# Altium schematic symbol library mainRCLib.SchLib: 122 symbols
Pins are listed as number, name and electrical type; pins without a type are passive.

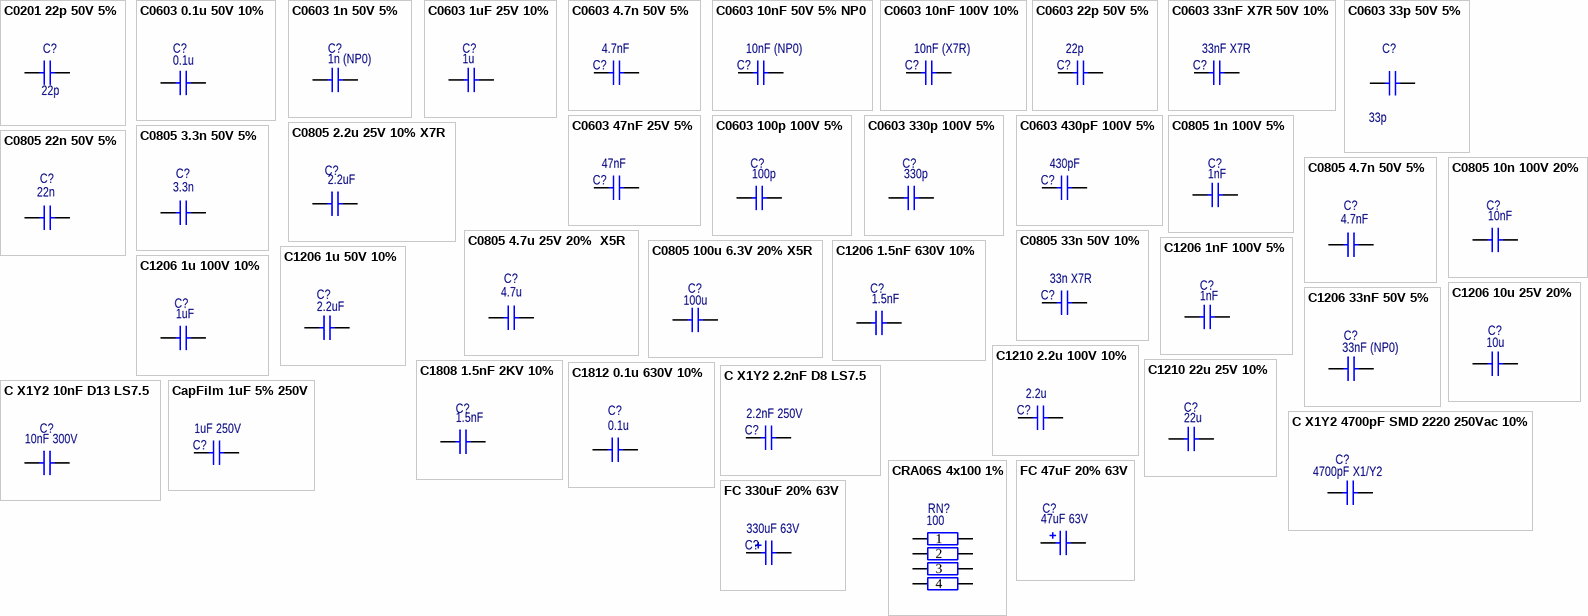
[diagram p0: symbols C0201 22p 50V 5% to FC 330uF 20% 63V]

## C0201 22p 50V 5%
designator C?, comment 22p
SMD 0201 MURATA 50V 5% NP0; PartNumber: GRM0335C1H220JA01D; Manufacturer: MURATA; Value: 22p
pins: 1, 2

## C0603 0.1u 50V 10%
designator C?, comment 0.1u
SMD C 0603 MURATA 50V 10% X7R; PartNumber: GRM188R71H104K; Manufacturer: MURATA; Value: 0.1u
footprint SMD_C_0603 (Chip Capacitor, 2-Leads, Body 1,60x0,80mm, IPC Low Density)
pins: 1, 2

## C0603 1n 50V 5%
designator C?, comment 1n (NP0)
SMD C 0603 MURATA 50V 5% NP0; PartNumber: GRM1885C1H102JA01; Manufacturer: MURATA; Value: 1n (NP0)
footprint SMD_C_0603 (Chip Capacitor, 2-Leads, Body 1,60x0,80mm, IPC Low Density)
pins: 1, 2

## C0603 1uF 25V 10%
designator C?, comment 1u
SMD C 0603 MURATA 25V 10% X7R; PartNumber: GRM188R71E105KA12; Manufacturer: MURATA; Value: 1u
footprint SMD_C_0603 (Chip Capacitor, 2-Leads, Body 1,60x0,80mm, IPC Low Density)
pins: 1, 2

## C0603 4.7n 50V 5%
designator C?, comment 4.7nF
SMD C 0603 MURATA 50V 5% NP0; PartNumber: GRM2195C1H472JA01; Manufacturer: MURATA; Value: 4.7nF
footprint SMD_C_0603 (Chip Capacitor, 2-Leads, Body 1,60x0,80mm, IPC Low Density)
pins: 1, 2

## C0603 10nF 50V 5% NP0
designator C?, comment 10nF (NP0)
SMD C 0603 MURATA 10nF 50V 5% NP0; PartNumber: GRM1885C1H103JA01#; Manufacturer: MURATA; Value: 10nF (NP0)
footprint SMD_C_0603 (Chip Capacitor, 2-Leads, Body 1,60x0,80mm, IPC Low Density)
pins: 1, 2

## C0603 10nF 100V 10%
designator C?, comment 10nF (X7R)
SMD C 0603 MURATA 100V 10% X7R; PartNumber: GRJ188R72A103KE11#; Manufacturer: MURATA; Value: 10nF (X7R)
footprint SMD_C_0603 (Chip Capacitor, 2-Leads, Body 1,60x0,80mm, IPC Low Density)
pins: 1, 2

## C0603 22p 50V 5%
designator C?, comment 22р
SMD C 0603 MURATA 50V 5% C0G; PartNumber: GRM1885C1H220JA01; Manufacturer: MURATA; Value: 22р
footprint SMD_C_0603 (Chip Capacitor, 2-Leads, Body 1,60x0,80mm, IPC Low Density)
pins: 1, 2

## C0603 33nF X7R 50V 10%
designator C?, comment 33nF X7R
SMD C 0603 MURATA 50V 10% X7R; PartNumber: GCM188R71H333KA55#; Manufacturer: MURATA; Value: 33nF X7R
footprint SMD_C_0603 (Chip Capacitor, 2-Leads, Body 1,60x0,80mm, IPC Low Density)
pins: 1, 2

## C0603 33p 50V 5%
designator C?, comment 33p
SMD C 0603 MURATA 50V 5% NP0; PartNumber: GRM1885C1H330JA01; Manufacturer: MURATA; Value: 33p
footprint SMD_C_0603 (Chip Capacitor, 2-Leads, Body 1,60x0,80mm, IPC Low Density)
pins: 1, 2

## C0603 47nF 25V 5%
designator C?, comment 47nF
SMD C 0603 MURATA 25V 5% X7R; PartNumber: GCM188R71E473JA37#; Manufacturer: MURATA; Value: 47nF
footprint SMD_C_0603 (Chip Capacitor, 2-Leads, Body 1,60x0,80mm, IPC Low Density)
pins: 1, 2

## C0603 100p 100V 5%
designator C?, comment 100p
SMD C 0603 MURATA 100V 5% NP0; PartNumber: GRM1885C2A101JA01; Manufacturer: MURATA; Value: 100p
footprint SMD_C_0603 (Chip Capacitor, 2-Leads, Body 1,60x0,80mm, IPC Low Density)
pins: 1, 2

## C0603 330p 100V 5%
designator C?, comment 330p
SMD C 0603 MURATA 100V 5% NP0; PartNumber: GRM1885C2A331JA01; Manufacturer: MURATA; Value: 330p
footprint SMD_C_0603 (Chip Capacitor, 2-Leads, Body 1,60x0,80mm, IPC Low Density)
pins: 1, 2

## C0603 430pF 100V 5%
designator C?, comment 430pF
SMD C 0603 MURATA 100V 5% C0G; PartNumber: GRM1885C2A431JA01#; Manufacturer: MURATA; Value: 430pF
footprint SMD_C_0603 (Chip Capacitor, 2-Leads, Body 1,60x0,80mm, IPC Low Density)
pins: 1, 2

## C0805 1n 100V 5%
designator C?, comment 1nF
SMD C 0805 MURATA 100V 5% NP0; PartNumber: GRM2165C2A102J; Manufacturer: MURATA; Value: 1nF
footprint SMD_C_0805 (Chip Capacitor, 2-Leads, Body 2,00x1,25mm, IPC Low Density)
pins: 1, 2

## C0805 2.2u 25V 10% X7R
designator C?, comment 2.2uF
SMD C 0805 MURATA 25V 10% X7R; PartNumber: GRM21BR61H225M; Manufacturer: MURATA; Value: 2.2uF
footprint SMD_C_0805 (Chip Capacitor, 2-Leads, Body 2,00x1,25mm, IPC Low Density)
pins: 1, 2

## C0805 3.3n 50V 5%
designator C?, comment 3.3n
SMD C 0805 MURATA 50V 5% NP0; PartNumber: GRM1885C1H332JA; Value: 3.3nF; Manufacturer: MURATA
footprint SMD_C_0805 (Chip Capacitor, 2-Leads, Body 2,00x1,25mm, IPC Low Density)
pins: 1, 2

## C0805 4.7n 50V 5%
designator C?, comment 4.7nF
SMD C 0805 MURATA 50V 5% NP0; PartNumber: GRM2195C1H472JA01; Manufacturer: MURATA; Value: 4.7nF
footprint SMD_C_0805 (Chip Capacitor, 2-Leads, Body 2,00x1,25mm, IPC Low Density)
pins: 1, 2

## C0805 4.7u 25V 20%  X5R
designator C?, comment 4.7u
SMD C 0805 MURATA 50V 5% NP0; PartNumber: GRM21BR61E475M; Manufacturer: MURATA; Value: 4.7u
footprint SMD_C_0805 (Chip Capacitor, 2-Leads, Body 2,00x1,25mm, IPC Low Density)
pins: 1, 2

## C0805 10n 100V 20%
designator C?, comment 10nF
SMD C 0805 MURATA 100V 20% X7R; PartNumber: GRM216R72A103MAC4#; Manufacturer: MURATA; Value: 10nF
footprint SMD_C_0805 (Chip Capacitor, 2-Leads, Body 2,00x1,25mm, IPC Low Density)
pins: 1, 2

## C0805 22n 50V 5%
designator C?, comment 22n
SMD C 0805 MURATA 50V 5% NP0; PartNumber: GRM21B5C1H223JA01; Value: 22nF; Manufacturer: MURATA
footprint SMD_C_0805 (Chip Capacitor, 2-Leads, Body 2,00x1,25mm, IPC Low Density)
pins: 1, 2

## C0805 33n 50V 10%
designator C?, comment 33n X7R
SMD C 0805 MURATA 50V 10% X7R; PartNumber: GRM219R71H333KA01#; Manufacturer: MURATA; Value: 33n X7R
footprint SMD_C_0805 (Chip Capacitor, 2-Leads, Body 2,00x1,25mm, IPC Low Density)
pins: 1, 2

## C0805 100u 6.3V 20% X5R
designator C?, comment 100u
SMD 0805 MURATA 6.3V 20% X5R; PartNumber: GRM21BR60J107M; Manufacturer: MURATA; Value: 100u
footprint SMD_C_0805
pins: 1, 2

## C1206 1.5nF 630V 10%
designator C?, comment 1.5nF
SMD C 1206 MURATA 630V 10% X7R; PartNumber: GRM31BR72J152KW01L; Manufacturer: MURATA; Value: 1.5nF
footprint SMD_C_1206 (Chip Capacitor, 2-Leads, Body 3,20x1,60mm, IPC Low Density)
pins: 1, 2

## C1206 1nF 100V 5%
designator C?, comment 1nF
SMD C 1206 MURATA 100V 5% NP0; PartNumber: GRM3195C2A102J; Manufacturer: MURATA; Value: 1nF
footprint SMD_C_1206 (Chip Capacitor, 2-Leads, Body 3,20x1,60mm, IPC Low Density)
pins: 1, 2

## C1206 1u 50V 10%
designator C?, comment 2.2uF
SMD C 1206 MURATA 2.2uF 50V 10%  X7R; PartNumber: GRM31CR71H225KA88L; Manufacturer: MURATA; Value: 2.2uF
footprint SMD_C_1206 (Chip Capacitor, 2-Leads, Body 3,20x1,60mm, IPC Low Density)
pins: 1, 2

## C1206 1u 100V 10%
designator C?, comment 1uF
SMD C 1206 MURATA 100V 10% X7R; PartNumber: GRM31CR72A105KA01; Manufacturer: MURATA; Value: 1uF
footprint SMD_C_1206 (Chip Capacitor, 2-Leads, Body 3,20x1,60mm, IPC Low Density)
pins: 1, 2

## C1206 10u 25V 20%
designator C?, comment 10u
SMD C 1206 MURATA 25V 20% X5R; PartNumber: GRM31MR61E106M; Manufacturer: MURATA; Value: 10u
footprint SMD_C_1206 (Chip Capacitor, 2-Leads, Body 3,20x1,60mm, IPC Low Density)
pins: 1, 2

## C1206 33nF 50V 5%
designator C?, comment 33nF (NP0)
SMD C 1206 MURATA 33nF 50V 5% NP0; PartNumber: GRM3195C1H333JA01D; Manufacturer: MURATA; Value: 33nF (NP0)
footprint SMD_C_1206 (Chip Capacitor, 2-Leads, Body 3,20x1,60mm, IPC Low Density)
pins: 1, 2

## C1210 2.2u 100V 10%
designator C?, comment 2.2u
SMD C 1210 MURATA 100V 10% X7R; PartNumber: GRM32ER72A225KA35L; Manufacturer: MURATA; Value: 2.2u
footprint SMD_C_1210 (Chip Capacitor, 2-Leads, Body 3,20x2,50mm, IPC Low Density)
pins: 1, 2

## C1210 22u 25V 10%
designator C?, comment 22u
SMD C 1210 MURATA 22uF 25V 10%  X7R; PartNumber: GRM32ER71E226K; Manufacturer: MURATA; Value: 22u
footprint SMD_C_1210 (Chip Capacitor, 2-Leads, Body 3,20x2,50mm, IPC Low Density)
pins: 1, 2

## C1808 1.5nF 2KV 10%
designator C?, comment 1.5nF
SMD C 1808 AVX 2kV 10%  X7R; PartNumber: 1808GC152KAT; Manufacturer: AVX; Value: 1.5nF
footprint SMD_C_1808 (Chip Capacitor, 2-Leads, Body 4,60x2,00mm, IPC Medium Density)
pins: 1, 2

## C1812 0.1u 630V 10%
designator C?, comment 0.1u
SMD C 1812 MURATA 630V 10% X7R; PartNumber: GRM43DR72J104K; Manufacturer: MURATA; Value: 0.1u
footprint SMD_C_1812 (Chip Capacitor, 2-Leads, Body 4,50x3,20mm, IPC Medium Density)
pins: 1, 2

## C X1Y2 2.2nF D8 LS7.5
designator C?, comment 2.2nF 250V
Ceramic D=8 LS=7.5 250VAC X1Y2; PartNumber: DE2E3KY222MN3; Manufacturer: Murata; Value: 2.2nF 250V
footprint C Y2 7.5b
pins: 1, 2

## C X1Y2 10nF D13 LS7.5
designator C?, comment 10nF 300V
Ceramic D=14 LS=7.5 300VAC X1Y2; PartNumber: DE2F3KY103MA3; Manufacturer: Murata; Value: 10nF 300V
footprint C Y2 D13 7.5b
pins: 1, 2

## C X1Y2 4700pF SMD 2220 250Vac 10%
designator C?, comment 4700pF X1/Y2
SMD C2220 MURATA 250Vac 10% X7R X1Y2; PartNumber: GA355DR7GF472kW01; Manufacturer: MURATA; Value: 4700pF X1/Y2
footprint SMD_C_2220
pins: 1, 2

## CapFilm 1uF 5% 250V
designator C?, comment 1uF 250V
Polypropelene W9.5 H17.5 L18 LS15 250V 5%; PartNumber: PHE426HB7100JR06; Manufacturer: KEMET; Value: 1uF 250V
footprint CapFilm_W9.5_H17.5_L18_LS15
pins: 1, 2

## CRA06S 4x100 1%
designator RN?, comment 100
SMD RESISTOR ARRAY VISHAY 0.063W 50V 1% 100ppm; PartNumber: CRA06S083100RF; Manufacturer: VISHAY; Value: 100
footprint CRA06S (Chip Array, ConvexS, 8-Leads, Pitch 0,80mm,  Body 3,20x1,50mm,  IPC Low Density)
pins: 1, 2, 3, 4, 5, 6, 7, 8

## FC 47uF 20% 63V
designator C?, comment 47uF 63V
Aluminum Electrolytic Radial D8 L11.5 LS3.5 63V 20%; PartNumber: EEUFC1J470(); Manufacturer: Panasonic; Value: 47uF 63V
footprint El_D8_H11.5_LS3.5
pins: 1, 2

## FC 330uF 20% 63V
designator C?, comment 330uF 63V
Aluminum Electrolytic Radial D12.5 L20 LS5 63V 20%; PartNumber: EEUFC1J331( ); Manufacturer: Panasonic; Value: 330uF 63V
footprint El_D12.5_H20_LS5.0
pins: 1, 2

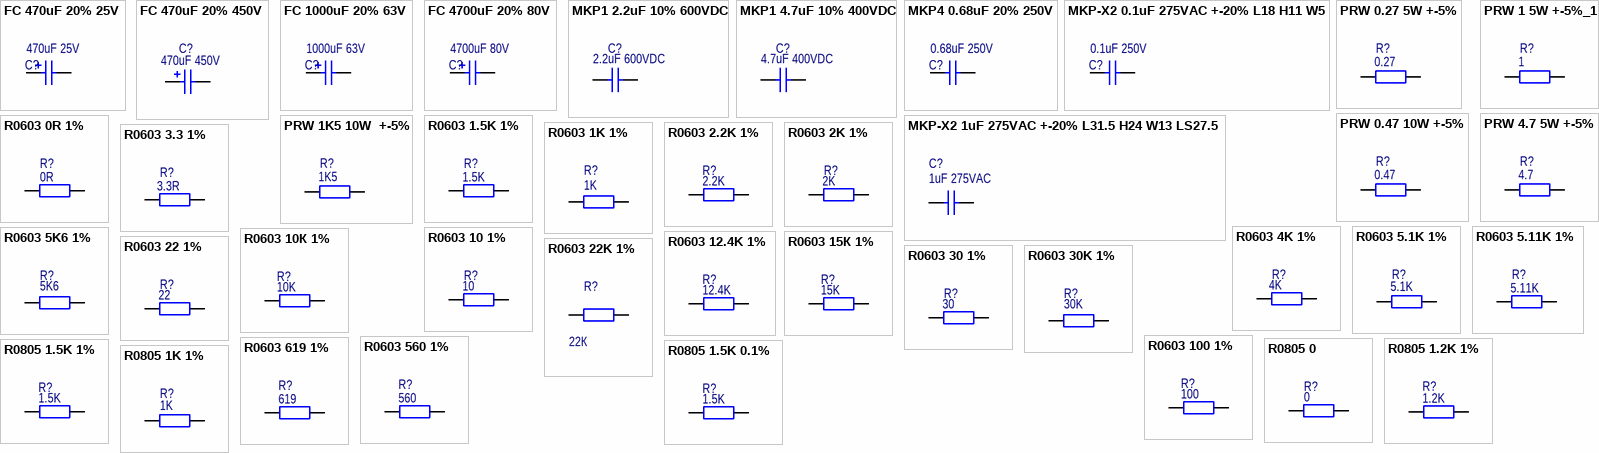
[diagram p1: symbols FC 470uF 20% 25V to R0805 1K 1%]

## FC 470uF 20% 25V
designator C?, comment 470uF 25V
Aluminum Electrolytic Radial D10 L16 LS5 25V 20%; PartNumber: EEUFC1E471( ); Manufacturer: Panasonic; Value: 470uF 25V
footprint El_D10_H16_LS5.0
pins: 1, 2

## FC 470uF 20% 450V
designator C?, comment 470uF 450V
Aluminum Electrolytic Radial D35 H45 LS10 450V 20%; PartNumber: LG450M0470BPF-3545; Manufacturer: YAGEO; Value: 470uF 450V
footprint El_D35_H45_LS10
pins: 1, 2

## FC 1000uF 20% 63V
designator C?, comment 1000uF 63V
Aluminum Electrolytic Radial D16 L35.5 LS7.5 63V 20%; PartNumber: EEUFC1J102; Manufacturer: Panasonic; Value: 1000uF 63V
footprint El_D16_H31.5_LS7.5
pins: 1, 2

## FC 4700uF 20% 80V
designator C?, comment 4700uF 80V
Aluminum Electrolytic Radial D35 L30 LS7.5 63V 20%; PartNumber: SLPX472M080H3P3; Manufacturer: Cornell Dubilier; Value: 4700uF 80V
footprint El_D35_H330_LS10
pins: 1, 2

## MKP1 2.2uF 10% 600VDC
designator C?, comment 2.2uF 600VDC
Polypropelene W20 H39.5 L41.5 LS37.5 600VDC 10%; PartNumber: MKP1J042207G00K; Manufacturer: Wima; Value: 2.2uF 600VDC
footprint MKP_W20_H39.5_L41.5_LS37.5
pins: 1, 2

## MKP1 4.7uF 10% 400VDC
designator C?, comment 4.7uF 400VDC
Polypropelene W20 H39.5 L41.5 LS37.5 400VDC 10%; PartNumber: MKP1G044707G00K; Manufacturer: Wima; Value: 4.7uF 400VDC
footprint MKP_W20_H39.5_L41.5_LS37.5
pins: 1, 2

## MKP4 0.68uF 20% 250V
designator C?, comment 0.68uF 250V
Polypropelene W8 H15 L18 LS15 250V 20%; PartNumber: MKP4F036804F00; Manufacturer: Wima; Value: 0.68uF 250V
footprint MKP_W8_H15_L18_LS15
pins: 1, 2

## MKP-X2 0.1uF 275VAC +-20% L18 H11 W5
designator C?, comment 0.1uF 250V
Polypropelene MKP-X2 L18 H11 W5; PartNumber: MKX21W31004B00M; Manufacturer: Wima; Value: 0.1uF 250V
footprint MKP_W5_H11_L18_LS15
pins: 1, 2

## MKP-X2 1uF 275VAC +-20% L31.5 H24 W13 LS27.5
designator C?, comment 1uF 275VAC
Polypropelene MKP-X2 L31.5 H24 W13 LS27.5; PartNumber: MKX21W41006D00M; Manufacturer: Wima; Value: 1uF 275VAC
footprint MKP_W13_H24_L31.5_LS27.5
pins: 1, 2

## PRW 0.27 5W +-5%
designator R?, comment 0.27
Выводной PRW 5W 0R27 +-5%; PartNumber: PRW05WJW27K; Manufacturer: RoyalOhm; Value: 0.27
footprint PRW 5W 1050
pins: 1, 2

## PRW 0.47 10W +-5%
designator R?, comment 0.47
Выводной PRW 10W 0R47 +-5%; PartNumber: PRW0AWJW47K; Manufacturer: RoyalOhm; Value: 0.47
footprint PRW 10W 2050
pins: 1, 2

## PRW 1 5W +-5%_1
designator R?, comment 1
Выводной PRW 5W 1R +-5%; PartNumber: PRW05WJW10J; Manufacturer: RoyalOhm; Value: 0.27
footprint PRW 5W 1050
footprint PRW 5W vertical
pins: 1, 2

## PRW 1K5 10W  +-5%
designator R?, comment 1K5
Выводной PRW 10W 1K5 +-5%; PartNumber: PRW0AWJP152; Manufacturer: RoyalOhm; Value: 1K5
footprint PRW 10W 2050
pins: 1, 2

## PRW 4.7 5W +-5%
designator R?, comment 4.7
Выводной PRW 5W 4R7 +-5%; PartNumber: PRW05WJW47J; Manufacturer: RoyalOhm; Value: 4.7
footprint PRW 5W 1050
pins: 1, 2

## R0603 0R 1%
designator R?, comment 0R
SMD R 0603 VISHAY 0.1W 75V 1% 100ppm; PartNumber: CRCW06030000Z0; Manufacturer: VISHAY; Value: 0R
footprint SMD_R_0603 (Chip Resistor, 2-Leads, Body 1,55x0,85mm, IPC Low Density)
pins: 1, 2

## R0603 1.5K 1%
designator R?, comment 1.5K
SMD R 0603 VISHAY 0.1W 75V 1% 100ppm; PartNumber: CRCW06031K50FK; Manufacturer: VISHAY; Value: 1.5K
footprint SMD_R_0603 (Chip Resistor, 2-Leads, Body 1,55x0,85mm, IPC Low Density)
pins: 1, 2

## R0603 1K 1%
designator R?, comment 1K
SMD R 0603 VISHAY 0.1W 75V 1% 100ppm; PartNumber: CRCW06031K00FK; Manufacturer: VISHAY; Value: 1K
footprint SMD_R_0603 (Chip Resistor, 2-Leads, Body 1,55x0,85mm, IPC Low Density)
pins: 1, 2

## R0603 2.2K 1%
designator R?, comment 2.2K
SMD R 0603 VISHAY 0.1W 75V 1% 100ppm; PartNumber: CRCW06032K20FK; Manufacturer: VISHAY; Value: 2.2K
footprint SMD_R_0603 (Chip Resistor, 2-Leads, Body 1,55x0,85mm, IPC Low Density)
pins: 1, 2

## R0603 2K 1%
designator R?, comment 2K
SMD R 0603 VISHAY 0.1W 75V 1% 100ppm; PartNumber: CRCW06032K00FK; Manufacturer: VISHAY; Value: 2K
footprint SMD_R_0603 (Chip Resistor, 2-Leads, Body 1,55x0,85mm, IPC Low Density)
pins: 1, 2

## R0603 3.3 1%
designator R?, comment 3.3R
SMD R 0603 VISHAY 0.1W 75V 1% 100ppm; PartNumber: CRCW06033R30FK; Manufacturer: VISHAY; Value: 3.3R
footprint SMD_R_0603 (Chip Resistor, 2-Leads, Body 1,55x0,85mm, IPC Low Density)
pins: 1, 2

## R0603 4K 1%
designator R?, comment 4K
SMD R 0603 VISHAY 0.1W 75V 1% 100ppm; PartNumber: CRCW06034K00FK; Manufacturer: VISHAY; Value: 4K
footprint SMD_R_0603 (Chip Resistor, 2-Leads, Body 1,55x0,85mm, IPC Low Density)
pins: 1, 2

## R0603 5.1K 1%
designator R?, comment 5.1K
SMD 0603 VISHAY 0.1W 75V 1% 100ppm; PartNumber: CRCW06035K10FK; Manufacturer: VISHAY; Value: 5.1K
footprint SMD_R_0603 (Chip Resistor, 2-Leads, Body 1,55x0,85mm, IPC Low Density)
pins: 1, 2

## R0603 5.11K 1%
designator R?, comment 5.11K
SMD R 0603 VISHAY 0.1W 75V 1% 100ppm; PartNumber: CRCW06035K11FK; Manufacturer: VISHAY; Value: 5.11K
footprint SMD_R_0603 (Chip Resistor, 2-Leads, Body 1,55x0,85mm, IPC Low Density)
pins: 1, 2

## R0603 5K6 1%
designator R?, comment 5K6
SMD R 0603 VISHAY 0.1W 75V 1% 100ppm; PartNumber: CRCW06035K60FK; Manufacturer: VISHAY; Value: 5K6
footprint SMD_R_0603 (Chip Resistor, 2-Leads, Body 1,55x0,85mm, IPC Low Density)
pins: 1, 2

## R0603 10 1%
designator R?, comment 10
SMD R 0603 VISHAY 0.1W 75V 1% 100ppm; PartNumber: CRCW060310R0FK; Manufacturer: VISHAY; Value: 10
footprint SMD_R_0603 (Chip Resistor, 2-Leads, Body 1,55x0,85mm, IPC Low Density)
pins: 1, 2

## R0603 10К 1%
designator R?, comment 10K
SMD R 0603 VISHAY 0.1W 75V 1% 100ppm; PartNumber: CRCW060310K0FK; Manufacturer: VISHAY; Value: 10K
footprint SMD_R_0603 (Chip Resistor, 2-Leads, Body 1,55x0,85mm, IPC Low Density)
pins: 1, 2

## R0603 12.4K 1%
designator R?, comment 12.4K
SMD R 0603 VISHAY 0.1W 75V 1% 100ppm; PartNumber: CRCW060312K4FK; Manufacturer: VISHAY; Value: 12.4K
footprint SMD_R_0603 (Chip Resistor, 2-Leads, Body 1,55x0,85mm, IPC Low Density)
pins: 1, 2

## R0603 15К 1%
designator R?, comment 15K
SMD R 0603 VISHAY 0.1W 75V 1% 100ppm; PartNumber: CRCW060315K0FK; Value: 10K; Manufacturer: VISHAY
footprint SMD_R_0603 (Chip Resistor, 2-Leads, Body 1,55x0,85mm, IPC Low Density)
pins: 1, 2

## R0603 22 1%
designator R?, comment 22
SMD R 0603 VISHAY 0.1W 75V 1% 100ppm; PartNumber: CRCW060322R0FK; Manufacturer: VISHAY; Value: 22
footprint SMD_R_0603 (Chip Resistor, 2-Leads, Body 1,55x0,85mm, IPC Low Density)
pins: 1, 2

## R0603 22K 1%
designator R?, comment 22К
SMD R 0603 VISHAY 0.1W 75V 1% 100ppm; PartNumber: CRCW060322K0FK; Manufacturer: VISHAY; Value: 22К
footprint SMD_R_0603 (Chip Resistor, 2-Leads, Body 1,55x0,85mm, IPC Low Density)
pins: 1, 2

## R0603 30 1%
designator R?, comment 30
SMD R 0603 VISHAY 0.1W 75V 1% 100ppm; PartNumber: CRCW060330R0FK; Manufacturer: VISHAY; Value: 30
footprint SMD_R_0603 (Chip Resistor, 2-Leads, Body 1,55x0,85mm, IPC Low Density)
pins: 1, 2

## R0603 30K 1%
designator R?, comment 30K
SMD R 0603 VISHAY 0.1W 75V 1% 100ppm; PartNumber: CRCW060330K0FK; Manufacturer: VISHAY; Value: 30K
footprint SMD_R_0603 (Chip Resistor, 2-Leads, Body 1,55x0,85mm, IPC Low Density)
pins: 1, 2

## R0603 100 1%
designator R?, comment 100
SMD R 0603 VISHAY 0.1W 75V 1% 100ppm; PartNumber: CRCW0603100RFK; Manufacturer: VISHAY; Value: 100
footprint SMD_R_0603 (Chip Resistor, 2-Leads, Body 1,55x0,85mm, IPC Low Density)
pins: 1, 2

## R0603 560 1%
designator R?, comment 560
SMD 0603 VISHAY 0.1W 75V 1% 100ppm; PartNumber: CRCW0603560RFK; Manufacturer: VISHAY; Value: 560
footprint SMD_R_0603 (Chip Resistor, 2-Leads, Body 1,55x0,85mm, IPC Low Density)
pins: 1, 2

## R0603 619 1%
designator R?, comment 619
SMD 0603 VISHAY 0.1W 75V 1% 100ppm; PartNumber: CRCW0603619RFK; Manufacturer: VISHAY; Value: 619
footprint SMD_R_0603 (Chip Resistor, 2-Leads, Body 1,55x0,85mm, IPC Low Density)
pins: 1, 2

## R0805 0
designator R?, comment 0
SMD 0805 VISHAY 0.125W 150V 1% 100ppm; PartNumber: CRCW08050000Z0; Manufacturer: VISHAY; Value: 0
footprint SMD_R_0805 (Chip Resistor, 2-Leads, Body 2,05x1,22mm, IPC Low Density)
pins: 1, 2

## R0805 1.2K 1%
designator R?, comment 1.2K
SMD R 0805 VISHAY 0.125W 150V 1% 100ppm; PartNumber: CRCW08051K2FK; Manufacturer: VISHAY; Value: 1.2K
footprint SMD_R_0805 (Chip Resistor, 2-Leads, Body 2,05x1,22mm, IPC Low Density)
pins: 1, 2

## R0805 1.5K 0.1%
designator R?, comment 1.5K
SMD R 0805 VISHAY 0.125W 150V 0.1% 25ppm; PartNumber: TNPW08051K50BE; Manufacturer: VISHAY; Value: 1.5K
footprint SMD_R_0805 (Chip Resistor, 2-Leads, Body 2,05x1,22mm, IPC Low Density)
pins: 1, 2

## R0805 1.5K 1%
designator R?, comment 1.5K
SMD R 0805 VISHAY 0.125W 150V 1% 100ppm; PartNumber: CRCW08051K50FK; Manufacturer: VISHAY; Value: 1.5K
footprint SMD_R_0805 (Chip Resistor, 2-Leads, Body 2,05x1,22mm, IPC Low Density)
pins: 1, 2

## R0805 1K 1%
designator R?, comment 1K
SMD R 0805 VISHAY 0.125W 150V 1% 100ppm; PartNumber: CRCW08051K00FK; Manufacturer: VISHAY; Value: 1K
footprint SMD_R_0805 (Chip Resistor, 2-Leads, Body 2,05x1,22mm, IPC Low Density)
pins: 1, 2

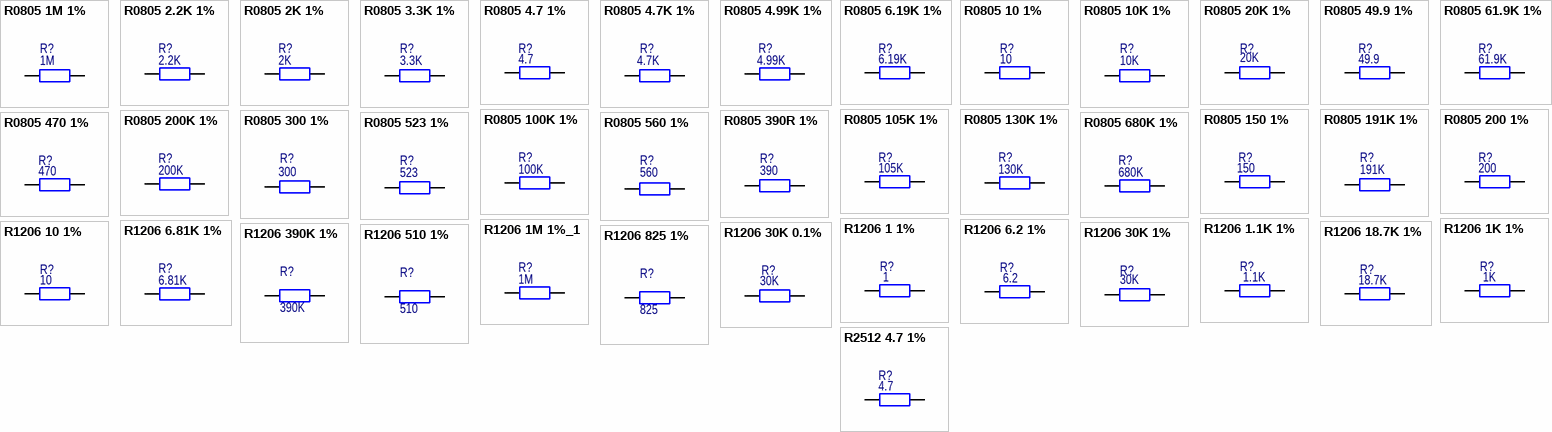
[diagram p2: symbols R0805 1M 1% to R2512 4.7 1%]

## R0805 1M 1%
designator R?, comment 1M
SMD R 0805 VISHAY 0.125W 150V 1% 100ppm; PartNumber: CRCW08051M00FK; Manufacturer: VISHAY; Value: 1M
footprint SMD_R_0805 (Chip Resistor, 2-Leads, Body 2,05x1,22mm, IPC Low Density)
pins: 1, 2

## R0805 2.2K 1%
designator R?, comment 2.2K
SMD R 0805 VISHAY 0.125W 150V 1% 100ppm; PartNumber: CRCW08052K20FK; Manufacturer: VISHAY; Value: 2.2K
footprint SMD_R_0805 (Chip Resistor, 2-Leads, Body 2,05x1,22mm, IPC Low Density)
pins: 1, 2

## R0805 2K 1%
designator R?, comment 2K
SMD R 0805 VISHAY 0.125W 150V 1% 100ppm; PartNumber: CRCW08052K00FK; Manufacturer: VISHAY; Value: 2K
footprint SMD_R_0805 (Chip Resistor, 2-Leads, Body 2,05x1,22mm, IPC Low Density)
pins: 1, 2

## R0805 3.3K 1%
designator R?, comment 3.3K
SMD R 0805 VISHAY 0.125W 150V 1% 100ppm; PartNumber: CRCW08053K30FK; Manufacturer: VISHAY; Value: 3.3K
footprint SMD_R_0805 (Chip Resistor, 2-Leads, Body 2,05x1,22mm, IPC Low Density)
pins: 1, 2

## R0805 4.7 1%
designator R?, comment 4.7
SMD R 0805 VISHAY 0.125W 150V 1% 100ppm; PartNumber: CRCW08054R70FK; Manufacturer: VISHAY; Value: 4.7
footprint SMD_R_0805
pins: 1, 2

## R0805 4.7K 1%
designator R?, comment 4.7K
SMD R 0805 VISHAY 0.125W 150V 1% 100ppm; PartNumber: CRCW08054K70FK; Manufacturer: VISHAY; Value: 4.7K
footprint SMD_R_0805 (Chip Resistor, 2-Leads, Body 2,05x1,22mm, IPC Low Density)
pins: 1, 2

## R0805 4.99K 1%
designator R?, comment 4.99K
SMD R 0805 VISHAY 0.125W 150V 1% 100ppm; PartNumber: CRCW08054K99FK; Manufacturer: VISHAY; Value: 4.99K
footprint SMD_R_0805 (Chip Resistor, 2-Leads, Body 2,05x1,22mm, IPC Low Density)
pins: 1, 2

## R0805 6.19K 1%
designator R?, comment 6.19K
SMD 0805 VISHAY 0.125W 150V 1% 100ppm; PartNumber: CRCW08056K19FK; Manufacturer: VISHAY; Value: 6.19K
footprint SMD_R_0805
pins: 1, 2

## R0805 10 1%
designator R?, comment 10
SMD R 0805 VISHAY 0.125W 150V 1% 100ppm; PartNumber: CRCW080510R0FK; Manufacturer: VISHAY; Value: 10
footprint SMD_R_0805 (Chip Resistor, 2-Leads, Body 2,05x1,22mm, IPC Low Density)
pins: 1, 2

## R0805 10K 1%
designator R?, comment 10K
SMD R 0805 VISHAY 0.125W 150V 1% 100ppm; PartNumber: CRCW080510K0FK; Manufacturer: VISHAY; Value: 10K
footprint SMD_R_0805 (Chip Resistor, 2-Leads, Body 2,05x1,22mm, IPC Low Density)
pins: 1, 2

## R0805 20K 1%
designator R?, comment 20K
SMD R 0805 VISHAY 0.125W 150V 1% 100ppm; PartNumber: CRCW080520K0FK; Manufacturer: VISHAY; Value: 20K
footprint SMD_R_0805 (Chip Resistor, 2-Leads, Body 2,05x1,22mm, IPC Low Density)
pins: 1, 2

## R0805 49.9 1%
designator R?, comment 49.9
SMD R 0805 VISHAY 0.125W 150V 1% 100ppm; PartNumber: CRCW080549R9FK; Manufacturer: VISHAY; Value: 49.9
footprint SMD_R_0805
pins: 1, 2

## R0805 61.9K 1%
designator R?, comment 61.9K
SMD R 0805 VISHAY 0.125W 150V 1% 100ppm; PartNumber: CRCW080561K9FK; Manufacturer: VISHAY; Value: 61.9K
footprint SMD_R_0805 (Chip Resistor, 2-Leads, Body 2,05x1,22mm, IPC Low Density)
pins: 1, 2

## R0805 100K 1%
designator R?, comment 100K
SMD R 0805 VISHAY 0.125W 150V 1% 100ppm; PartNumber: CRCW0805100KFK; Manufacturer: VISHAY; Value: 100K
footprint SMD_R_0805 (Chip Resistor, 2-Leads, Body 2,05x1,22mm, IPC Low Density)
pins: 1, 2

## R0805 105K 1%
designator R?, comment 105K
SMD R 0805 VISHAY 0.125W 150V 1% 100ppm; PartNumber: CRCW0805105KFK; Manufacturer: VISHAY; Value: 105K
footprint SMD_R_0805 (Chip Resistor, 2-Leads, Body 2,05x1,22mm, IPC Low Density)
pins: 1, 2

## R0805 130K 1%
designator R?, comment 130K
SMD R 0805 VISHAY 0.125W 150V 1% 100ppm; PartNumber: CRCW0805130KFK; Manufacturer: VISHAY; Value: 130K
footprint SMD_R_0805 (Chip Resistor, 2-Leads, Body 2,05x1,22mm, IPC Low Density)
pins: 1, 2

## R0805 150 1%
designator R?, comment 150
SMD 0805 VISHAY 0.125W 150V 1% 100ppm; PartNumber: CRCW0805150RFK; Manufacturer: VISHAY; Value: 150
footprint SMD_R_0805
pins: 1, 2

## R0805 191K 1%
designator R?, comment 191K
SMD R 0805 VISHAY 0.125W 150V 1% 100ppm; PartNumber: CRCW0805191KFK; Manufacturer: VISHAY; Value: 191K
footprint SMD_R_0805 (Chip Resistor, 2-Leads, Body 2,05x1,22mm, IPC Low Density)
pins: 1, 2

## R0805 200 1%
designator R?, comment 200
SMD R 0805 VISHAY 0.125W 150V 1% 100ppm; PartNumber: CRCW0805200RFK; Manufacturer: VISHAY; Value: 200
footprint SMD_R_0805 (Chip Resistor, 2-Leads, Body 2,05x1,22mm, IPC Low Density)
pins: 1, 2

## R0805 200K 1%
designator R?, comment 200K
SMD R 0805 VISHAY 0.125W 150V 1% 100ppm; PartNumber: CRCW0805200KFK; Manufacturer: VISHAY; Value: 200K
footprint SMD_R_0805 (Chip Resistor, 2-Leads, Body 2,05x1,22mm, IPC Low Density)
pins: 1, 2

## R0805 300 1%
designator R?, comment 300
SMD R 0805 VISHAY 0.125W 150V 1% 100ppm; PartNumber: CRCW0805300RFK; Manufacturer: VISHAY; Value: 300
footprint SMD_R_0805 (Chip Resistor, 2-Leads, Body 2,05x1,22mm, IPC Low Density)
pins: 1, 2

## R0805 390R 1%
designator R?, comment 390
SMD R 0805 VISHAY 0.125W 150V 1% 100ppm; PartNumber: CRCW0805390RFK; Manufacturer: VISHAY; Value: 390
footprint SMD_R_0805 (Chip Resistor, 2-Leads, Body 2,05x1,22mm, IPC Low Density)
pins: 1, 2

## R0805 470 1%
designator R?, comment 470
SMD R 0805 VISHAY 0.125W 150V 1% 100ppm; PartNumber: CRCW0805470RFK; Manufacturer: VISHAY; Value: 470
footprint SMD_R_0805
pins: 1, 2

## R0805 523 1%
designator R?, comment 523
SMD R 0805 VISHAY 0.125W 150V 1% 100ppm; PartNumber: CRCW0805523RFK; Manufacturer: VISHAY; Value: 523
footprint SMD_R_0805 (Chip Resistor, 2-Leads, Body 2,05x1,22mm, IPC Low Density)
pins: 1, 2

## R0805 560 1%
designator R?, comment 560
SMD R 0805 VISHAY 0.125W 150V 1% 100ppm; PartNumber: CRCW0805560RFK; Manufacturer: VISHAY; Value: 560
footprint SMD_R_0805 (Chip Resistor, 2-Leads, Body 2,05x1,22mm, IPC Low Density)
pins: 1, 2

## R0805 680K 1%
designator R?, comment 680K
SMD R 0805 VISHAY 0.125W 150V 1% 100ppm; PartNumber: CRCW0805680KFK; Manufacturer: VISHAY; Value: 680K
footprint SMD_R_0805 (Chip Resistor, 2-Leads, Body 2,05x1,22mm, IPC Low Density)
pins: 1, 2

## R1206 1 1%
designator R?, comment 1
SMD R 1206 VISHAY 0.25W 200V 1% 100ppm; PartNumber: CRCW12061R00FK; Manufacturer: VISHAY; Value: 1
footprint SMD_R_1206
pins: 1, 2

## R1206 1.1K 1%
designator R?, comment 1.1K
SMD R 1206 VISHAY 0.25W 200V 1% 100ppm; PartNumber: CRCW12061K100FK; Manufacturer: VISHAY; Value: 1.1K
footprint SMD_R_1206
pins: 1, 2

## R1206 1K 1%
designator R?, comment 1K
SMD R 1206 VISHAY 0.25W 200V 1% 100ppm; PartNumber: CRCW12061K00FK; Manufacturer: VISHAY; Value: 1K
footprint SMD_R_1206
pins: 1, 2

## R1206 1M 1%_1
designator R?, comment 1M
SMD R 1206 VISHAY 0.25W 150V 1% 100ppm; PartNumber: CRCW12061M00FK; Manufacturer: VISHAY; Value: 1M
footprint SMD_R_1206
pins: 1, 2

## R1206 6.2 1%
designator R?, comment 6.2
SMD R 1206 VISHAY 0.25W 200V 1% 100ppm; PartNumber: CRCW12066R20FK; Manufacturer: VISHAY; Value: 6.2
footprint SMD_R_1206
pins: 1, 2

## R1206 6.81K 1%
designator R?, comment 6.81K
SMD R 1206 VISHAY 0.25W 150V 1% 100ppm; PartNumber: CRCW12066K81FK; Manufacturer: VISHAY; Value: 6.81K
footprint SMD_R_1206
pins: 1, 2

## R1206 10 1%
designator R?, comment 10
SMD R 1206 VISHAY 0.25W 200V 1% 100ppm; PartNumber: CRCW120610R0FK; Manufacturer: VISHAY; Value: 10
footprint SMD_R_1206 (Chip Resistor, 2-Leads, Body 3,15x1,60mm, IPC Low Density)
pins: 1, 2

## R1206 18.7K 1%
designator R?, comment 18.7K
SMD R 1206 VISHAY 0.25W 200V 1% 100ppm; PartNumber: CRCW120618K7FK; Manufacturer: VISHAY; Value: 18.7K
footprint SMD_R_1206 (Chip Resistor, 2-Leads, Body 3,15x1,60mm, IPC Low Density)
pins: 1, 2

## R1206 30K 0.1%
designator R?, comment 30K
SMD R 1206 VISHAY 0.25W 2000V 0.1% 25ppm; PartNumber: TNPW120630K0BE; Manufacturer: VISHAY; Value: 30K
footprint SMD_R_1206
pins: 1, 2

## R1206 30K 1%
designator R?, comment 30K
SMD R 1206 VISHAY 0.25W 2000V 1% 100ppm; PartNumber: CRCW120630K0FK; Manufacturer: VISHAY; Value: 30K
footprint SMD_R_1206
pins: 1, 2

## R1206 390K 1%
designator R?, comment 390K
SMD R 1206 VISHAY 0.25W 200V 1% 100ppm; PartNumber: CRCW1206390KFK; Manufacturer: VISHAY; Value: 390K
footprint SMD_R_1206 (Chip Resistor, 2-Leads, Body 3,15x1,60mm, IPC Low Density)
pins: 1, 2

## R1206 510 1%
designator R?, comment 510
SMD R 1206 VISHAY 0.25W 200V 1% 100ppm; PartNumber: CRCW1206510RFK; Manufacturer: VISHAY; Value: 510
footprint SMD_R_1206 (Chip Resistor, 2-Leads, Body 3,15x1,60mm, IPC Low Density)
pins: 1, 2

## R1206 825 1%
designator R?, comment 825
SMD R 1206 VISHAY 0.25W 200V 1% 100ppm; PartNumber: CRCW1206825RFK; Manufacturer: VISHAY; Value: 825
footprint SMD_R_1206 (Chip Resistor, 2-Leads, Body 3,15x1,60mm, IPC Low Density)
pins: 1, 2

## R2512 4.7 1%
designator R?, comment 4.7
SMD R 2512 VISHAY 1W 500V 1% 100ppm; PartNumber: CRCW25124R70FK; Manufacturer: VISHAY; Value: 4.7
footprint SMD_R_2512
pins: 1, 2

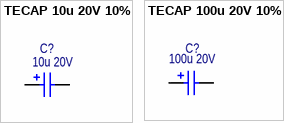
[diagram p3: symbols TECAP 10u 20V 10% to TECAP 100u 20V 10%]

## TECAP 10u 20V 10%
designator C?, comment 10u 20V
SMD SIZE C TANTALUM AVX 20V 10%; PartNumber: TAJC106K020RNJ; Manufacturer: AVX; Value: 10u 20V
footprint TAJC (Molded Capacitor, 2-Leads, Body 6,00x3,25mm, IPC Low Density)
pins: 1, 2

## TECAP 100u 20V 10%
designator C?, comment 100u 20V
SMD SIZE D TANTALUM AVX 20V 10%; PartNumber: TAJD107K020RNJ; Manufacturer: AVX; Value: 100u 20V
footprint TAJD (Molded Capacitor, 2-Leads, Body 7,30x4,35mm, IPC Medium Density)
pins: 1, 2